# Altium footprint library 0039281083.PcbLib: 2 footprints
Each footprint in its own frame and in the unit in brackets; x right, y up, seen from the top. Pads: shape width x height; smd on the part's side, far side on the other; paste and mask are expansions set on the pad; w line width, h text height; cw(c..) or ccw(c..) is an arc to the next point about the centre after c.
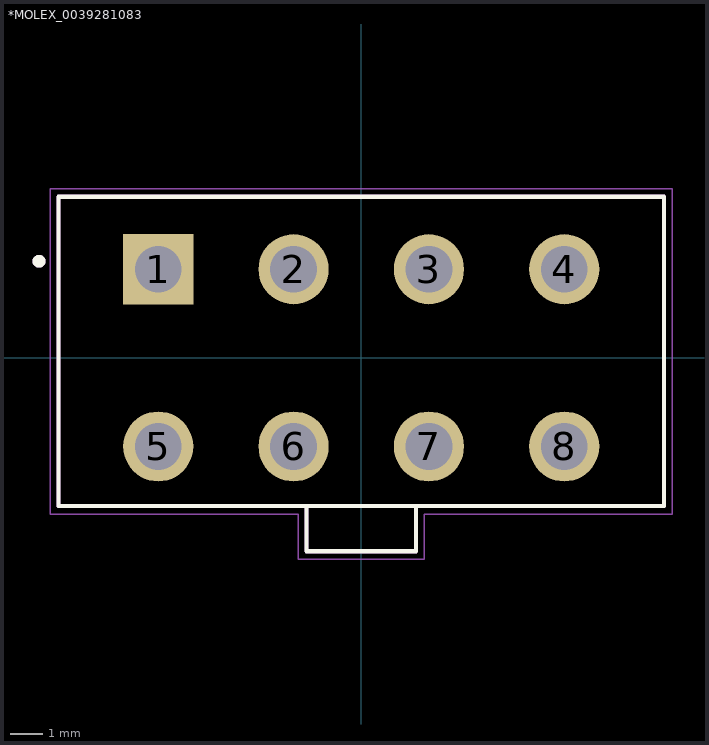
[diagram p0: the footprints below, top view; thin cyan lines are the x and y axes]

## *MOLEX_0039281083 [mm]
pads (8):
  rect 2.175x2.175 hole 1.45: 1(-6.3,2.75)
  round 2.175 hole 1.45: 2(-2.1,2.75) 3(2.1,2.75) 4(6.3,2.75) 5(-6.3,-2.75) 6(-2.1,-2.75) 7(2.1,-2.75) 8(6.3,-2.75)
Top Overlay:
  circle w0.2: c-10,3 r0.1
  lines w0.127: -1.7,-4.6 -1.7,-6 1.7,-6 1.7,-4.6 ; -1.7,-4.6 1.7,-4.6 ; -1.7,-4.6 -9.4,-4.6 -9.4,5 9.4,5 9.4,-4.6 1.7,-4.6
Mechanical 4:
  circle w0.2: c-10,3 r0.1
  circle w0.2: c-10,3 r0.1
  lines w0.127: -9.4,-4.6 -1.7,-4.6 ; -9.4,-4.6 -9.4,5 ; -9.4,-4.6 -1.7,-4.6 ; -9.4,-4.6 -9.4,5 ; -9.4,5 9.4,5 ; -9.4,5 9.4,5 ; -1.7,-6 -1.7,-4.6 ; -1.7,-6 1.7,-6 ; -1.7,-6 -1.7,-4.6 ; -1.7,-6 1.7,-6 ; -1.7,-4.6 1.7,-4.6 ; -1.7,-4.6 1.7,-4.6 ; 1.7,-6 1.7,-4.6 ; 1.7,-6 1.7,-4.6 ; 1.7,-4.6 9.4,-4.6 ; 1.7,-4.6 9.4,-4.6 ; 9.4,-4.6 9.4,5 ; 9.4,-4.6 9.4,5
Mechanical 16:
  lines w0.05: -9.65,-4.85 -1.95,-4.85 -1.95,-6.25 1.95,-6.25 1.95,-4.85 9.65,-4.85 9.65,5.25 -9.65,5.25 -9.65,-4.85

## PCBComponent_1 [mm]